# Altium schematic symbol library BitCoin.SchLib: 14 symbols
Pins are listed as number, name and electrical type; pins without a type are passive.

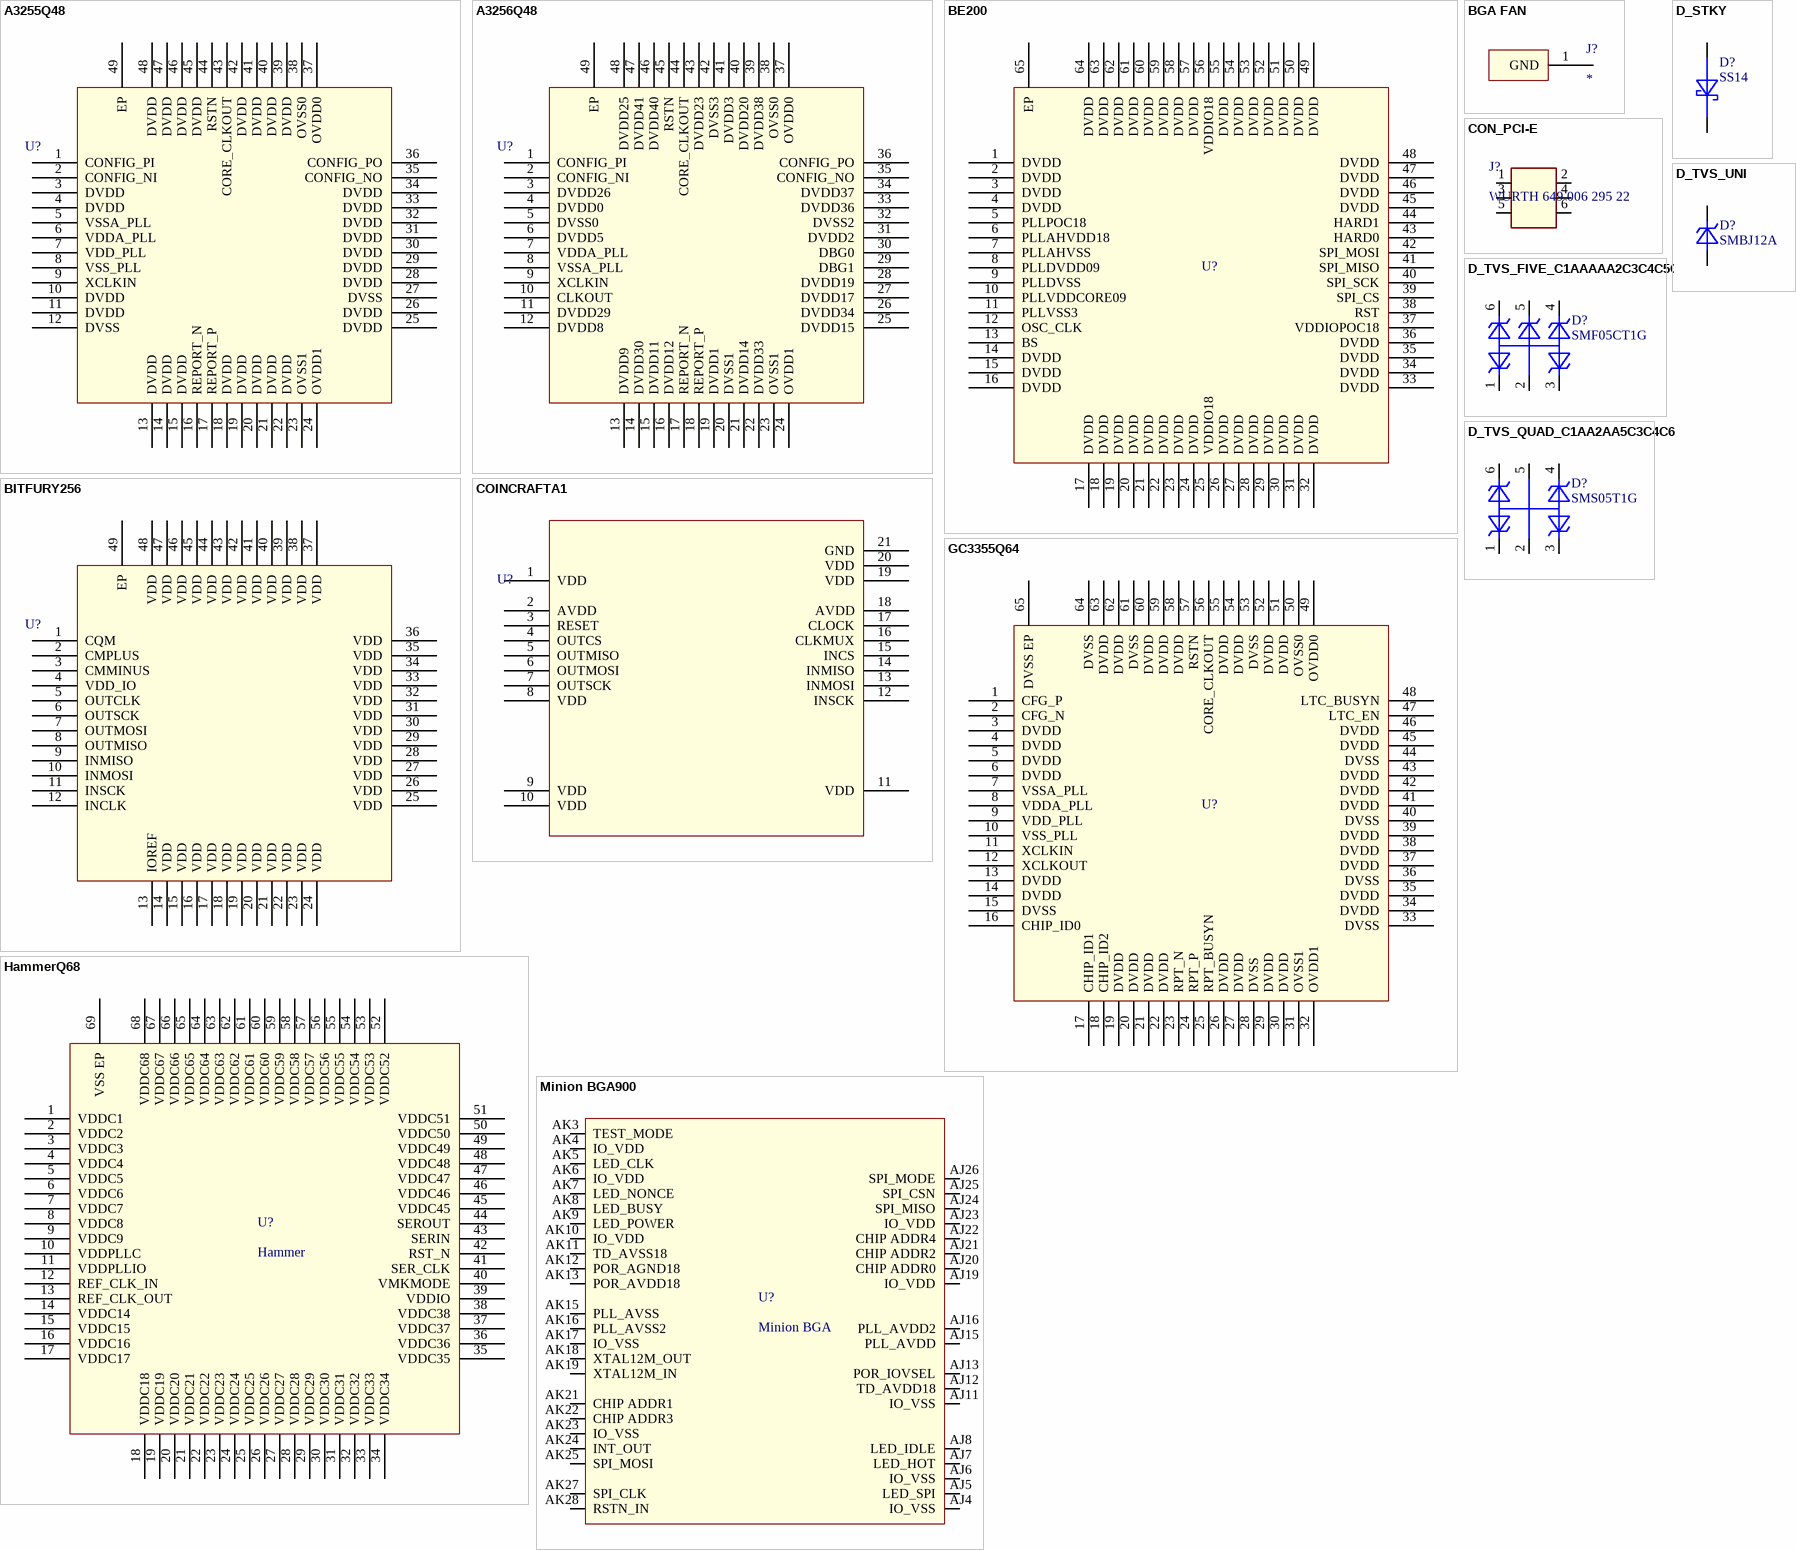
[diagram p0: symbols A3255Q48 to Minion BGA900]

## A3255Q48
designator U?
Avalon2 SHA256
footprint SMD_QFN50P700X700X90-49N
pins: 1 CONFIG_PI, 2 CONFIG_NI, 3 DVDD, 4 DVDD, 5 VSSA_PLL, 6 VDDA_PLL, 7 VDD_PLL, 8 VSS_PLL, 9 XCLKIN, 10 DVDD, 11 DVDD, 12 DVSS, 13 DVDD, 14 DVDD, 15 DVDD, 16 REPORT_N, 17 REPORT_P, 18 DVDD, 19 DVDD, 20 DVDD, 21 DVDD, 22 DVDD, 23 OVSS1, 24 OVDD1, 25 DVDD, 26 DVDD, 27 DVSS, 28 DVDD, 29 DVDD, 30 DVDD, 31 DVDD, 32 DVDD, 33 DVDD, 34 DVDD, 35 CONFIG_NO, 36 CONFIG_PO, 37 OVDD0, 38 OVSS0, 39 DVDD, 40 DVDD, 41 DVDD, 42 DVDD, 43 CORE_CLKOUT, 44 RSTN, 45 DVDD, 46 DVDD, 47 DVDD, 48 DVDD, 49 EP
1 alternate drawing of the same symbol

## A3256Q48
designator U?
Avalon SHA256
footprint QFN50P700X700X80-48M (QFN, 48-Leads, Body 7,1x7,1mm (max), Pitch 0,50mm, IPC Low Density)
pins: 1 CONFIG_PI, 2 CONFIG_NI, 3 DVDD26, 4 DVDD0, 5 DVSS0, 6 DVDD5, 7 VDDA_PLL, 8 VSSA_PLL, 9 XCLKIN, 10 CLKOUT, 11 DVDD29, 12 DVDD8, 13 DVDD9, 14 DVDD30, 15 DVDD11, 16 DVDD12, 17 REPORT_N, 18 REPORT_P, 19 DVDD1, 20 DVSS1, 21 DVDD14, 22 DVDD33, 23 OVSS1, 24 OVDD1, 25 DVDD15, 26 DVDD34, 27 DVDD17, 28 DVDD19, 29 DBG1, 30 DBG0, 31 DVDD2, 32 DVSS2, 33 DVDD36, 34 DVDD37, 35 CONFIG_NO, 36 CONFIG_PO, 37 OVDD0, 38 OVSS0, 39 DVDD38, 40 DVDD20, 41 DVDD3, 42 DVSS3, 43 DVDD23, 44 CORE_CLKOUT, 45 RSTN, 46 DVDD40, 47 DVDD41, 48 DVDD25, 49 EP
1 alternate drawing of the same symbol

## BE200
designator U?
BE200
footprint SMD_QFN50P800X800X80-65N - GRIDSEED
pins: 1 DVDD "UART RXD for BTC or DATA_P for Custom defined 2 Wire Bus for Configuration", 2 DVDD "UART RXD for LTC or DATA_N for Custom defined 2 Wire Bus for Configuration", 3 DVDD "Digital VDD, 1.0V", 4 DVDD "Digital VDD, 1.0V", 5 PLLPOC18 "Digital VDD, 1.0V", 6 PLLAHVDD18 "Digital VDD, 1.0V", 7 PLLAHVSS "PLL Analog VSS", 8 PLLDVDD09 "PLL Analog VDD, 1.0V", 9 PLLDVSS "PLL Digital VDD, 1.0V", 10 PLLVDDCORE09 "PLL Digital VSS", 11 PLLVSS3 "Crystal or Oscillator Clock Input", 12 OSC_CLK "Crystal or Oscillator Clock Output", 13 BS "Digital VDD, 1.0V", 14 DVDD "Digital VDD, 1.0V", 15 DVDD "Digital VSS", 16 DVDD "Chip ID Bit 0, Stable Input", 17 DVDD "Chip ID Bit 1, Stable Input", 18 DVDD "Chip ID Bit 2, Stable Input", 19 DVDD "Digital VDD, 1.0V", 20 DVDD "Digital VDD, 1.0V", 21 DVDD "Digital VDD, 1.0V", 22 DVDD "Digital VDD, 1.0V", 23 DVDD "UART TXD for LTC or DATA_N for Custom defined 2 Wire Bus for Report Open-Drain Mode by default", 24 DVDD "UART TXD for BTC or DATA_P for Custom defined 2 Wire Bus for Report Open-Drain Mode by default", 25 VDDIO18 "BTC Unit is Busy, Active low Open-Drain Mode by default", 26 DVDD "Digital VDD, 1.0V", 27 DVDD "Digital VDD, 1.0V", 28 DVDD "Digital VSS", 29 DVDD "Digital VDD, 1.0V", 30 DVDD "Digital VDD, 1.0V", 31 DVDD "IO VSS0", 32 DVDD "IO VDD1, 3.3V", 33 DVDD "Digital VSS", 34 DVDD "Digital VDD, 1.0V", 35 DVDD "Digital VDD, 1.0V", 36 DVDD "Digital VSS", 37 VDDIOPOC18 "Digital VDD, 1.0V", 38 RST "Digital VDD, 1.0V", 39 SPI_CS "Digital VDD, 1.0V", 40 SPI_SCK "Digital VSS", 41 SPI_MISO "Digital VDD, 1.0V", 42 SPI_MOSI "Digital VDD, 1.0V", 43 HARD0 "Digital VDD, 1.0V", 44 HARD1 "Digital VSS", 45 DVDD "Digital VDD, 1.0V", 46 DVDD "Digital VDD, 1.0V", 47 DVDD "Enable LTC function, Stable Input", 48 DVDD "LTC Unit is Busy, Active low Open-Drain Mode by default", 49 DVDD "IO VDD0, 3.3V", 50 DVDD "IO VSS0", 51 DVDD "Digital VDD, 1.0V", 52 DVDD "Digital VDD, 1.0V", 53 DVDD "Digital VSS", 54 DVDD "Digital VDD, 1.0V", 55 DVDD "Digital VDD, 1.0V", 56 VDDIO18 "Strap Pin; Internal Core Clock Divided by 50.", 57 DVDD "Chip Asynchronous Reset, Active low", 58 DVDD "Digital VDD, 1.0V", 59 DVDD "Digital VDD, 1.0V", 60 DVDD "Digital VDD, 1.0V", 61 DVDD "Digital VSS", 62 DVDD "Digital VDD, 1.0V", 63 DVDD "Digital VDD, 1.0V", 64 DVDD "Digital VSS", 65 EP "Digital VSS"
1 alternate drawing of the same symbol

## BGA FAN
designator J?
footprint SMD_BGA900_FAN
pins: 1 GND

## BITFURY256
designator U?
BitFury SHA256
footprint QFN50P700X700X80-48M (QFN, 48-Leads, Body 7,1x7,1mm (max), Pitch 0,50mm, IPC Low Density)
pins: 1 CQM, 2 CMPLUS, 3 CMMINUS, 4 VDD_IO, 5 OUTCLK, 6 OUTSCK, 7 OUTMOSI, 8 OUTMISO, 9 INMISO, 10 INMOSI, 11 INSCK, 12 INCLK, 13 IOREF, 14 VDD, 15 VDD, 16 VDD, 17 VDD, 18 VDD, 19 VDD, 20 VDD, 21 VDD, 22 VDD, 23 VDD, 24 VDD, 25 VDD, 26 VDD, 27 VDD, 28 VDD, 29 VDD, 30 VDD, 31 VDD, 32 VDD, 33 VDD, 34 VDD, 35 VDD, 36 VDD, 37 VDD, 38 VDD, 39 VDD, 40 VDD, 41 VDD, 42 VDD, 43 VDD, 44 VDD, 45 VDD, 46 VDD, 47 VDD, 48 VDD, 49 EP
1 alternate drawing of the same symbol

## COINCRAFTA1
designator U?
CoinCraft SHA256
footprint SMD_QFNCOINCRAFTX90- 21N (CoinCraft A1)
pins: 1 VDD, 2 AVDD, 3 RESET, 4 OUTCS, 5 OUTMISO, 6 OUTMOSI, 7 OUTSCK, 8 VDD, 9 VDD, 10 VDD, 11 VDD, 12 INSCK, 13 INMOSI, 14 INMISO, 15 INCS, 16 CLKMUX, 17 CLOCK, 18 AVDD, 19 VDD, 20 VDD, 21 GND
1 alternate drawing of the same symbol

## CON_PCI-E
designator J?, comment WURTH 649 006 295 22
4.20mm Male Dual Row Angled Header WR-MPC4
footprint PTH_CON_PCI-E
pins: 1, 2, 3, 4, 5, 6

## D_STKY
designator D?, comment SS14
NOTE: <NOTE>
footprint SMD_DO214AC_SMA
pins: 1 C, 2 A

## D_TVS_FIVE_C1AAAAA2C3C4C5C6
designator D?, comment SMF05CT1G
5 IO lines TVS; NOTE: <NOTE>
footprint SMD_SOT363_SOT65P210X110-6N
pins: 1 C1, 2 AAAA, 3 C2, 4 C3, 5 C4, 6 C4

## D_TVS_QUAD_C1AA2AA5C3C4C6
designator D?, comment SMS05T1G
4 IO lines TVS; NOTE: <NOTE>
footprint SMD_SOT95P280X145-6N
pins: 1 C1, 2 AAAA, 3 C2, 4 C3, 5 C4, 6 C4

## D_TVS_UNI
designator D?, comment SMBJ12A
Åäíîïîñî÷åí òðàíñèë, 600W, UBRmin13.3V@1mA; NOTE: <NOTE>
footprint SMD_DO214AC_SMB
pins: 1 C, 2 A

## GC3355Q64
designator U?
GridSeed
footprint SMD_QFN50P800X800X80-65N - GRIDSEED
pins: 1 CFG_P "UART RXD for BTC or DATA_P for Custom defined 2 Wire Bus for Configuration", 2 CFG_N "UART RXD for LTC or DATA_N for Custom defined 2 Wire Bus for Configuration", 3 DVDD "Digital VDD, 1.0V", 4 DVDD "Digital VDD, 1.0V", 5 DVDD "Digital VDD, 1.0V", 6 DVDD "Digital VDD, 1.0V", 7 VSSA_PLL "PLL Analog VSS", 8 VDDA_PLL "PLL Analog VDD, 1.0V", 9 VDD_PLL "PLL Digital VDD, 1.0V", 10 VSS_PLL "PLL Digital VSS", 11 XCLKIN "Crystal or Oscillator Clock Input", 12 XCLKOUT "Crystal or Oscillator Clock Output", 13 DVDD "Digital VDD, 1.0V", 14 DVDD "Digital VDD, 1.0V", 15 DVSS "Digital VSS", 16 CHIP_ID0 "Chip ID Bit 0, Stable Input", 17 CHIP_ID1 "Chip ID Bit 1, Stable Input", 18 CHIP_ID2 "Chip ID Bit 2, Stable Input", 19 DVDD "Digital VDD, 1.0V", 20 DVDD "Digital VDD, 1.0V", 21 DVDD "Digital VDD, 1.0V", 22 DVDD "Digital VDD, 1.0V", 23 RPT_N "UART TXD for LTC or DATA_N for Custom defined 2 Wire Bus for Report Open-Drain Mode by default", 24 RPT_P "UART TXD for BTC or DATA_P for Custom defined 2 Wire Bus for Report Open-Drain Mode by default", 25 RPT_BUSYN "BTC Unit is Busy, Active low Open-Drain Mode by default", 26 DVDD "Digital VDD, 1.0V", 27 DVDD "Digital VDD, 1.0V", 28 DVSS "Digital VSS", 29 DVDD "Digital VDD, 1.0V", 30 DVDD "Digital VDD, 1.0V", 31 OVSS1 "IO VSS0", 32 OVDD1 "IO VDD1, 3.3V", 33 DVSS "Digital VSS", 34 DVDD "Digital VDD, 1.0V", 35 DVDD "Digital VDD, 1.0V", 36 DVSS "Digital VSS", 37 DVDD "Digital VDD, 1.0V", 38 DVDD "Digital VDD, 1.0V", 39 DVDD "Digital VDD, 1.0V", 40 DVSS "Digital VSS", 41 DVDD "Digital VDD, 1.0V", 42 DVDD "Digital VDD, 1.0V", 43 DVDD "Digital VDD, 1.0V", 44 DVSS "Digital VSS", 45 DVDD "Digital VDD, 1.0V", 46 DVDD "Digital VDD, 1.0V", 47 LTC_EN "Enable LTC function, Stable Input", 48 LTC_BUSYN "LTC Unit is Busy, Active low Open-Drain Mode by default", 49 OVDD0 "IO VDD0, 3.3V", 50 OVSS0 "IO VSS0", 51 DVDD "Digital VDD, 1.0V", 52 DVDD "Digital VDD, 1.0V", 53 DVSS "Digital VSS", 54 DVDD "Digital VDD, 1.0V", 55 DVDD "Digital VDD, 1.0V", 56 CORE_CLKOUT "Strap Pin; Internal Core Clock Divided by 50.", 57 RSTN "Chip Asynchronous Reset, Active low", 58 DVDD "Digital VDD, 1.0V", 59 DVDD "Digital VDD, 1.0V", 60 DVDD "Digital VDD, 1.0V", 61 DVSS "Digital VSS", 62 DVDD "Digital VDD, 1.0V", 63 DVDD "Digital VDD, 1.0V", 64 DVSS "Digital VSS", 65 DVSS EP "Digital VSS"
1 alternate drawing of the same symbol

## HammerQ68
designator U?, comment Hammer
Hammer ASIC
footprint SMD_QFN50P800X800X80-69N - HAMMER
pins: 1 VDDC1 "VDD Core 0.63V", 2 VDDC2 "VDD Core 0.63V", 3 VDDC3 "VDD Core 0.63V", 4 VDDC4 "VDD Core 0.63V", 5 VDDC5 "VDD Core 0.63V", 6 VDDC6 "VDD Core 0.63V", 7 VDDC7 "VDD Core 0.63V", 8 VDDC8 "VDD Core 0.63V", 9 VDDC9 "VDD Core 0.63V", 10 VDDPLLC "PLL VDD Core 0.9V", 11 VDDPLLIO "PLL VDD I/O 1.8V", 12 REF_CLK_IN "Reference clock Oscillator Can be used as Reference clock input", 13 REF_CLK_OUT "Reference clock Oscillator, left open if not used", 14 VDDC14 "VDD Core 0.63V", 15 VDDC15 "VDD Core 0.63V", 16 VDDC16 "VDD Core 0.63V", 17 VDDC17 "VDD Core 0.63V", 18 VDDC18 "VDD Core 0.63V", 19 VDDC19 "VDD Core 0.63V", 20 VDDC20 "VDD Core 0.63V", 21 VDDC21 "VDD Core 0.63V", 22 VDDC22 "VDD Core 0.63V", 23 VDDC23 "VDD Core 0.63V", 24 VDDC24 "VDD Core 0.63V", 25 VDDC25 "VDD Core 0.63V", 26 VDDC26 "VDD Core 0.63V", 27 VDDC27 "VDD Core 0.63V", 28 VDDC28 "VDD Core 0.63V", 29 VDDC29 "VDD Core 0.63V", 30 VDDC30 "VDD Core 0.63V", 31 VDDC31 "VDD Core 0.63V", 32 VDDC32 "VDD Core 0.63V", 33 VDDC33 "VDD Core 0.63V", 34 VDDC34 "VDD Core 0.63V", 35 VDDC35 "VDD Core 0.63V", 36 VDDC36 "VDD Core 0.63V", 37 VDDC37 "VDD Core 0.63V", 38 VDDC38 "VDD Core 0.63V", 39 VDDIO "Thermal Sensor and I/O VDD 1.8V", 40 VMKMODE "leave unconnected", 41 SER_CLK "Serial Clock Input, Schmitt trigger", 42 RST_N "Reset input, active low, internal pull down and Schmitt trigger", 43 SERIN "Serial Data Input, internal pull down and Schmitt trigger", 44 SEROUT "Serial Data Output, 12 mA diving strength", 45 VDDC45 "VDD Core 0.63V", 46 VDDC46 "VDD Core 0.63V", 47 VDDC47 "VDD Core 0.63V", 48 VDDC48 "VDD Core 0.63V", 49 VDDC49 "VDD Core 0.63V", 50 VDDC50 "VDD Core 0.63V", 51 VDDC51 "VDD Core 0.63V", 52 VDDC52 "VDD Core 0.63V", 53 VDDC53 "VDD Core 0.63V", 54 VDDC54 "VDD Core 0.63V", 55 VDDC55 "VDD Core 0.63V", 56 VDDC56 "VDD Core 0.63V", 57 VDDC57 "VDD Core 0.63V", 58 VDDC58 "VDD Core 0.63V", 59 VDDC59 "VDD Core 0.63V", 60 VDDC60 "VDD Core 0.63V", 61 VDDC61 "VDD Core 0.63V", 62 VDDC62 "VDD Core 0.63V", 63 VDDC63 "VDD Core 0.63V", 64 VDDC64 "VDD Core 0.63V", 65 VDDC65 "VDD Core 0.63V", 66 VDDC66 "VDD Core 0.63V", 67 VDDC67 "VDD Core 0.63V", 68 VDDC68 "VDD Core 0.63V", 69 VSS EP "VDD Core 0.63V"

## Minion BGA900
designator U?, comment Minion BGA
footprint SMD_BGA900C80P30X30_2500X2500X240
pins: A1 CORE_VSS (power) hidden to GND, A2 CORE_VDD (power) hidden to 0.8V, A3 CORE_VSS (power) hidden to GND, A4 CORE_VDD (power) hidden to 0.8V, A5 CORE_VSS (power) hidden to GND, A6 CORE_VDD (power) hidden to 0.8V, A7 CORE_VSS (power) hidden to GND, A8 CORE_VDD (power) hidden to 0.8V, A9 CORE_VSS (power) hidden to GND, A10 CORE_VDD (power) hidden to 0.8V, A11 CORE_VSS (power) hidden to GND, A12 CORE_VDD (power) hidden to 0.8V, A13 CORE_VSS (power) hidden to GND, A14 CORE_VDD (power) hidden to 0.8V, A15 CORE_VSS (power) hidden to GND, A16 CORE_VDD (power) hidden to 0.8V, A17 CORE_VSS (power) hidden to GND, A18 CORE_VDD (power) hidden to 0.8V, A19 CORE_VSS (power) hidden to GND, A20 CORE_VDD (power) hidden to 0.8V, A21 CORE_VSS (power) hidden to GND, A22 CORE_VDD (power) hidden to 0.8V, A23 CORE_VSS (power) hidden to GND, A24 CORE_VDD (power) hidden to 0.8V, A25 CORE_VSS (power) hidden to GND, A26 CORE_VDD (power) hidden to 0.8V, A27 CORE_VSS (power) hidden to GND, A28 CORE_VDD (power) hidden to 0.8V, A29 CORE_VSS (power) hidden to GND, A30 CORE_VDD (power) hidden to 0.8V, AA1 CORE_VSS (power) hidden to GND, AA2 CORE_VDD (power) hidden to 0.8V, AA3 CORE_VSS (power) hidden to GND, AA4 CORE_VDD (power) hidden to 0.8V, AA5 CORE_VSS (power) hidden to GND, AA6 CORE_VDD (power) hidden to 0.8V, AA7 CORE_VSS (power) hidden to GND, AA8 CORE_VDD (power) hidden to 0.8V, AA9 CORE_VSS (power) hidden to GND, AA10 CORE_VDD (power) hidden to 0.8V, AA11 CORE_VSS (power) hidden to GND, AA12 CORE_VDD (power) hidden to 0.8V, AA13 CORE_VSS (power) hidden to GND, AA14 CORE_VDD (power) hidden to 0.8V, AA15 CORE_VSS (power) hidden to GND, AA16 CORE_VDD (power) hidden to 0.8V, AA17 CORE_VSS (power) hidden to GND, AA18 CORE_VDD (power) hidden to 0.8V, AA19 CORE_VSS (power) hidden to GND, AA20 CORE_VDD (power) hidden to 0.8V, AA21 CORE_VSS (power) hidden to GND, AA22 CORE_VDD (power) hidden to 0.8V, AA23 CORE_VSS (power) hidden to GND, AA24 CORE_VDD (power) hidden to 0.8V, AA25 CORE_VSS (power) hidden to GND, AA26 CORE_VDD (power) hidden to 0.8V, AA27 CORE_VSS (power) hidden to GND, AA28 CORE_VDD (power) hidden to 0.8V, AA29 CORE_VSS (power) hidden to GND, AA30 CORE_VDD (power) hidden to 0.8V, AB1 CORE_VDD (power) hidden to 0.8V, AB2 CORE_VSS (power) hidden to GND, AB3 CORE_VDD (power) hidden to 0.8V, AB4 CORE_VSS (power) hidden to GND, AB5 CORE_VDD (power) hidden to 0.8V, AB6 CORE_VSS (power) hidden to GND, AB7 CORE_VDD (power) hidden to 0.8V, AB8 CORE_VSS (power) hidden to GND, AB9 CORE_VDD (power) hidden to 0.8V, AB10 CORE_VSS (power) hidden to GND, AB11 CORE_VDD (power) hidden to 0.8V, AB12 CORE_VSS (power) hidden to GND, AB13 CORE_VDD (power) hidden to 0.8V, AB14 CORE_VSS (power) hidden to GND, AB15 CORE_VDD (power) hidden to 0.8V, AB16 CORE_VSS (power) hidden to GND, AB17 CORE_VDD (power) hidden to 0.8V, AB18 CORE_VSS (power) hidden to GND, AB19 CORE_VDD (power) hidden to 0.8V, AB20 CORE_VSS (power) hidden to GND, AB21 CORE_VDD (power) hidden to 0.8V, AB22 CORE_VSS (power) hidden to GND, AB23 CORE_VDD (power) hidden to 0.8V, AB24 CORE_VSS (power) hidden to GND, AB25 CORE_VDD (power) hidden to 0.8V, AB26 CORE_VSS (power) hidden to GND, AB27 CORE_VDD (power) hidden to 0.8V, AB28 CORE_VSS (power) hidden to GND, AB29 CORE_VDD (power) hidden to 0.8V, AB30 CORE_VSS (power) hidden to GND, AC1 CORE_VSS (power) hidden to GND, AC2 CORE_VDD (power) hidden to 0.8V, AC3 CORE_VSS (power) hidden to GND, AC4 CORE_VDD (power) hidden to 0.8V, AC5 CORE_VSS (power) hidden to GND, AC6 CORE_VDD (power) hidden to 0.8V, AC7 CORE_VSS (power) hidden to GND, AC8 CORE_VDD (power) hidden to 0.8V, AC9 CORE_VSS (power) hidden to GND, AC10 CORE_VDD (power) hidden to 0.8V, AC11 CORE_VSS (power) hidden to GND, AC12 CORE_VDD (power) hidden to 0.8V, AC13 CORE_VSS (power) hidden to GND, AC14 CORE_VDD (power) hidden to 0.8V, AC15 CORE_VSS (power) hidden to GND, AC16 CORE_VDD (power) hidden to 0.8V, AC17 CORE_VSS (power) hidden to GND, AC18 CORE_VDD (power) hidden to 0.8V, AC19 CORE_VSS (power) hidden to GND, AC20 CORE_VDD (power) hidden to 0.8V, AC21 CORE_VSS (power) hidden to GND, AC22 CORE_VDD (power) hidden to 0.8V, AC23 CORE_VSS (power) hidden to GND, AC24 CORE_VDD (power) hidden to 0.8V, AC25 CORE_VSS (power) hidden to GND, AC26 CORE_VDD (power) hidden to 0.8V, AC27 CORE_VSS (power) hidden to GND, AC28 CORE_VDD (power) hidden to 0.8V, AC29 CORE_VSS (power) hidden to GND, AC30 CORE_VDD (power) hidden to 0.8V, AD1 CORE_VDD (power) hidden to 0.8V, AD2 CORE_VSS (power) hidden to GND, AD3 CORE_VDD (power) hidden to 0.8V, AD4 CORE_VSS (power) hidden to GND, AD5 CORE_VDD (power) hidden to 0.8V, AD6 CORE_VSS (power) hidden to GND, AD7 CORE_VDD (power) hidden to 0.8V, AD8 CORE_VSS (power) hidden to GND, AD9 CORE_VDD (power) hidden to 0.8V, AD10 CORE_VSS (power) hidden to GND, AD11 CORE_VDD (power) hidden to 0.8V, AD12 CORE_VSS (power) hidden to GND, AD13 CORE_VDD (power) hidden to 0.8V, AD14 CORE_VSS (power) hidden to GND, AD15 CORE_VDD (power) hidden to 0.8V, AD16 CORE_VSS (power) hidden to GND, AD17 CORE_VDD (power) hidden to 0.8V, AD18 CORE_VSS (power) hidden to GND, AD19 CORE_VDD (power) hidden to 0.8V, AD20 CORE_VSS (power) hidden to GND, AD21 CORE_VDD (power) hidden to 0.8V, AD22 CORE_VSS (power) hidden to GND, AD23 CORE_VDD (power) hidden to 0.8V, AD24 CORE_VSS (power) hidden to GND, AD25 CORE_VDD (power) hidden to 0.8V, AD26 CORE_VSS (power) hidden to GND, AD27 CORE_VDD (power) hidden to 0.8V, AD28 CORE_VSS (power) hidden to GND, AD29 CORE_VDD (power) hidden to 0.8V, AD30 CORE_VSS (power) hidden to GND, AE1 CORE_VSS (power) hidden to GND, AE2 CORE_VDD (power) hidden to 0.8V, AE3 CORE_VSS (power) hidden to GND, AE4 CORE_VDD (power) hidden to 0.8V, AE5 CORE_VSS (power) hidden to GND, AE6 CORE_VDD (power) hidden to 0.8V, AE7 CORE_VSS (power) hidden to GND, AE8 CORE_VDD (power) hidden to 0.8V, AE9 CORE_VSS (power) hidden to GND, AE10 CORE_VDD (power) hidden to 0.8V, AE11 CORE_VSS (power) hidden to GND, AE12 CORE_VDD (power) hidden to 0.8V, AE13 CORE_VSS (power) hidden to GND, AE14 CORE_VDD (power) hidden to 0.8V, AE15 CORE_VSS (power) hidden to GND, AE16 CORE_VDD (power) hidden to 0.8V, AE17 CORE_VSS (power) hidden to GND, AE18 CORE_VDD (power) hidden to 0.8V, AE19 CORE_VSS (power) hidden to GND, AE20 CORE_VDD (power) hidden to 0.8V, AE21 CORE_VSS (power) hidden to GND, AE22 CORE_VDD (power) hidden to 0.8V, AE23 CORE_VSS (power) hidden to GND, AE24 CORE_VDD (power) hidden to 0.8V, AE25 CORE_VSS (power) hidden to GND, AE26 CORE_VDD (power) hidden to 0.8V, AE27 CORE_VSS (power) hidden to GND, AE28 CORE_VDD (power) hidden to 0.8V, AE29 CORE_VSS (power) hidden to GND, AE30 CORE_VDD (power) hidden to 0.8V, AF1 CORE_VDD (power) hidden to 0.8V, AF2 CORE_VSS (power) hidden to GND, AF3 CORE_VDD (power) hidden to 0.8V, AF4 CORE_VSS (power) hidden to GND, AF5 CORE_VDD (power) hidden to 0.8V, AF6 CORE_VSS (power) hidden to GND, AF7 CORE_VDD (power) hidden to 0.8V, AF8 CORE_VSS (power) hidden to GND, AF9 CORE_VDD (power) hidden to 0.8V, AF10 CORE_VSS (power) hidden to GND, AF11 CORE_VDD (power) hidden to 0.8V, AF12 CORE_VSS (power) hidden to GND, AF13 CORE_VDD (power) hidden to 0.8V, AF14 CORE_VSS (power) hidden to GND, AF15 CORE_VDD (power) hidden to 0.8V, AF16 CORE_VSS (power) hidden to GND, AF17 CORE_VDD (power) hidden to 0.8V, AF18 CORE_VSS (power) hidden to GND, AF19 CORE_VDD (power) hidden to 0.8V, AF20 CORE_VSS (power) hidden to GND, AF21 CORE_VDD (power) hidden to 0.8V, AF22 CORE_VSS (power) hidden to GND, AF23 CORE_VDD (power) hidden to 0.8V, AF24 CORE_VSS (power) hidden to GND, AF25 CORE_VDD (power) hidden to 0.8V, AF26 CORE_VSS (power) hidden to GND, AF27 CORE_VDD (power) hidden to 0.8V, AF28 CORE_VSS (power) hidden to GND, AF29 CORE_VDD (power) hidden to 0.8V, AF30 CORE_VSS (power) hidden to GND, AG1 CORE_VSS (power) hidden to GND, AG2 CORE_VDD (power) hidden to 0.8V, AG3 CORE_VSS (power) hidden to GND, AG4 CORE_VDD (power) hidden to 0.8V, AG5 CORE_VSS (power) hidden to GND, AG6 CORE_VDD (power) hidden to 0.8V, AG7 CORE_VSS (power) hidden to GND, AG8 CORE_VDD (power) hidden to 0.8V, AG9 CORE_VSS (power) hidden to GND, AG10 CORE_VDD (power) hidden to 0.8V, AG11 CORE_VSS (power) hidden to GND, AG12 CORE_VDD (power) hidden to 0.8V, AG13 CORE_VSS (power) hidden to GND, AG14 CORE_VDD (power) hidden to 0.8V, AG15 CORE_VSS (power) hidden to GND, AG16 CORE_VDD (power) hidden to 0.8V, AG17 CORE_VSS (power) hidden to GND, AG18 CORE_VDD (power) hidden to 0.8V, AG19 CORE_VSS (power) hidden to GND, AG20 CORE_VDD (power) hidden to 0.8V, AG21 CORE_VSS (power) hidden to GND, AG22 CORE_VDD (power) hidden to 0.8V, AG23 CORE_VSS (power) hidden to GND, AG24 CORE_VDD (power) hidden to 0.8V, AG25 CORE_VSS (power) hidden to GND, AG26 CORE_VDD (power) hidden to 0.8V, AG27 CORE_VSS (power) hidden to GND, AG28 CORE_VDD (power) hidden to 0.8V, AG29 CORE_VSS (power) hidden to GND, AG30 CORE_VDD (power) hidden to 0.8V, AH1 CORE_VDD (power) hidden to 0.8V, AH2 CORE_VSS (power) hidden to GND, AH3 CORE_VDD (power) hidden to 0.8V, AH4 CORE_VSS (power) hidden to GND, AH5 CORE_VDD (power) hidden to 0.8V, AH6 CORE_VSS (power) hidden to GND, AH7 CORE_VDD (power) hidden to 0.8V, AH8 CORE_VSS (power) hidden to GND, AH9 CORE_VDD (power) hidden to 0.8V, AH10 CORE_VSS (power) hidden to GND, AH11 CORE_VDD (power) hidden to 0.8V, AH12 CORE_VSS (power) hidden to GND, AH13 CORE_VDD (power) hidden to 0.8V, AH14 CORE_VSS (power) hidden to GND, AH15 CORE_VDD (power) hidden to 0.8V, AH16 CORE_VSS (power) hidden to GND, AH17 CORE_VDD (power) hidden to 0.8V, AH18 CORE_VSS (power) hidden to GND, AH19 CORE_VDD (power) hidden to 0.8V, AH20 CORE_VSS (power) hidden to GND, AH21 CORE_VDD (power) hidden to 0.8V, AH22 CORE_VSS (power) hidden to GND, AH23 CORE_VDD (power) hidden to 0.8V, AH24 CORE_VSS (power) hidden to GND, AH25 CORE_VDD (power) hidden to 0.8V, AH26 CORE_VSS (power) hidden to GND, AH27 CORE_VDD (power) hidden to 0.8V, AH28 CORE_VSS (power) hidden to GND, AH29 CORE_VDD (power) hidden to 0.8V, AH30 CORE_VSS (power) hidden to GND, AJ1 CORE_VSS (power) hidden to GND, AJ2 CORE_VDD (power) hidden to 0.8V, AJ3 CORE_VSS (power) hidden to GND, AJ4 IO_VSS, AJ5 LED_SPI "LED indicator, which is controlled", AJ6 IO_VSS, AJ7 LED_HOT "Chip hot indicator 1: high threshold triggered 0: low threshold triggered", AJ8 LED_IDLE ""Core idle chip busy indicator:1: Busy", AJ9 CORE_VSS (power) hidden to GND, AJ10 CORE_VDD (power) hidden to 0.8V, AJ11 IO_VSS, AJ12 TD_AVDD18 "Temperature detector power", AJ13 POR_IOVSEL, AJ14 CORE_VDD (power) hidden to 0.8V, AJ15 PLL_AVDD "PLL power", AJ16 PLL_AVDD2 "PLL power", AJ17 CORE_VSS (power) hidden to GND, AJ18 CORE_VDD (power) hidden to 0.8V, AJ19 IO_VDD, AJ20 CHIP ADDR0 "ID of ASIC", AJ21 CHIP ADDR2 "ID of ASIC", AJ22 CHIP ADDR4 "ID of ASIC", AJ23 IO_VDD, AJ24 SPI_MISO "SPI slave output data", AJ25 SPI_CSN "SPI select signal 1: disable 0: select enable", AJ26 SPI_MODE "SPI mode select 1: mode 3 0: mode 1", AJ27 CORE_VSS (power) hidden to GND, AJ28 CORE_VDD (power) hidden to 0.8V, AJ29 CORE_VSS (power) hidden to GND, AJ30 CORE_VDD (power) hidden to 0.8V, AK1 CORE_VDD (power) hidden to 0.8V, AK2 CORE_VSS (power) hidden to GND, AK3 TEST_MODE "Test mode 1: test mode 0: function mode", AK4 IO_VDD, AK5 LED_CLK, AK6 IO_VDD, AK7 LED_NONCE "nonce get indicator: 1: Get nonce, stay time configurable 0:no nonce get currently", AK8 LED_BUSY "Chip busy indicator", AK9 LED_POWER "Led power indicator", AK10 IO_VDD, AK11 TD_AVSS18 "Temperature detector gnd", AK12 POR_AGND18, AK13 POR_AVDD18, AK14 CORE_VSS (power) hidden to GND, AK15 PLL_AVSS "PLL GND", AK16 PLL_AVSS2 "PLL GND", AK17 IO_VSS, AK18 XTAL12M_OUT, AK19 XTAL12M_IN, AK20 CORE_VSS (power) hidden to GND, AK21 CHIP ADDR1 "ID of ASIC", AK22 CHIP ADDR3 "ID of ASIC", AK23 IO_VSS, AK24 INT_OUT "Interrupt output", AK25 SPI_MOSI "SPI slave input data", AK26 CORE_VDD (power) hidden to 0.8V, AK27 SPI_CLK "SPI slave clock in", AK28 RSTN_IN "Reset signal", AK29 CORE_VDD (power) hidden to 0.8V, AK30 CORE_VSS (power) hidden to GND, B1 CORE_VDD (power) hidden to 0.8V, B2 CORE_VSS (power) hidden to GND, B3 CORE_VDD (power) hidden to 0.8V, B4 CORE_VSS (power) hidden to GND, B5 CORE_VDD (power) hidden to 0.8V, B6 CORE_VSS (power) hidden to GND, B7 CORE_VDD (power) hidden to 0.8V, B8 CORE_VSS (power) hidden to GND, B9 CORE_VDD (power) hidden to 0.8V, B10 CORE_VSS (power) hidden to GND, B11 CORE_VDD (power) hidden to 0.8V, B12 CORE_VSS (power) hidden to GND, B13 CORE_VDD (power) hidden to 0.8V, B14 CORE_VSS (power) hidden to GND, B15 CORE_VDD (power) hidden to 0.8V, B16 CORE_VSS (power) hidden to GND, B17 CORE_VDD (power) hidden to 0.8V, B18 CORE_VSS (power) hidden to GND, B19 CORE_VDD (power) hidden to 0.8V, B20 CORE_VSS (power) hidden to GND, B21 CORE_VDD (power) hidden to 0.8V, B22 CORE_VSS (power) hidden to GND, B23 CORE_VDD (power) hidden to 0.8V, B24 CORE_VSS (power) hidden to GND, B25 CORE_VDD (power) hidden to 0.8V, B26 CORE_VSS (power) hidden to GND, B27 CORE_VDD (power) hidden to 0.8V, B28 CORE_VSS (power) hidden to GND, B29 CORE_VDD (power) hidden to 0.8V, B30 CORE_VSS (power) hidden to GND, C1 CORE_VSS (power) hidden to GND, C2 CORE_VDD (power) hidden to 0.8V, C3 CORE_VSS (power) hidden to GND, C4 CORE_VDD (power) hidden to 0.8V, C5 CORE_VSS (power) hidden to GND, C6 CORE_VDD (power) hidden to 0.8V, C7 CORE_VSS (power) hidden to GND, C8 CORE_VDD (power) hidden to 0.8V, C9 CORE_VSS (power) hidden to GND, C10 CORE_VDD (power) hidden to 0.8V, C11 CORE_VSS (power) hidden to GND, C12 CORE_VDD (power) hidden to 0.8V, C13 CORE_VSS (power) hidden to GND, C14 CORE_VDD (power) hidden to 0.8V, C15 CORE_VSS (power) hidden to GND, C16 CORE_VDD (power) hidden to 0.8V, C17 CORE_VSS (power) hidden to GND, C18 CORE_VDD (power) hidden to 0.8V, C19 CORE_VSS (power) hidden to GND, C20 CORE_VDD (power) hidden to 0.8V, C21 CORE_VSS (power) hidden to GND, C22 CORE_VDD (power) hidden to 0.8V, C23 CORE_VSS (power) hidden to GND, C24 CORE_VDD (power) hidden to 0.8V, C25 CORE_VSS (power) hidden to GND, C26 CORE_VDD (power) hidden to 0.8V, C27 CORE_VSS (power) hidden to GND, C28 CORE_VDD (power) hidden to 0.8V, C29 CORE_VSS (power) hidden to GND, C30 CORE_VDD (power) hidden to 0.8V, D1 CORE_VDD (power) hidden to 0.8V, D2 CORE_VSS (power) hidden to GND, D3 CORE_VDD (power) hidden to 0.8V, D4 CORE_VSS (power) hidden to GND, D5 CORE_VDD (power) hidden to 0.8V, D6 CORE_VSS (power) hidden to GND, D7 CORE_VDD (power) hidden to 0.8V, D8 CORE_VSS (power) hidden to GND, D9 CORE_VDD (power) hidden to 0.8V, D10 CORE_VSS (power) hidden to GND, D11 CORE_VDD (power) hidden to 0.8V, D12 CORE_VSS (power) hidden to GND, D13 CORE_VDD (power) hidden to 0.8V, D14 CORE_VSS (power) hidden to GND, D15 CORE_VDD (power) hidden to 0.8V, D16 CORE_VSS (power) hidden to GND, D17 CORE_VDD (power) hidden to 0.8V, D18 CORE_VSS (power) hidden to GND, D19 CORE_VDD (power) hidden to 0.8V, D20 CORE_VSS (power) hidden to GND, D21 CORE_VDD (power) hidden to 0.8V, D22 CORE_VSS (power) hidden to GND, D23 CORE_VDD (power) hidden to 0.8V, D24 CORE_VSS (power) hidden to GND, D25 CORE_VDD (power) hidden to 0.8V, D26 CORE_VSS (power) hidden to GND, D27 CORE_VDD (power) hidden to 0.8V, D28 CORE_VSS (power) hidden to GND, D29 CORE_VDD (power) hidden to 0.8V, D30 CORE_VSS (power) hidden to GND, E1 CORE_VSS (power) hidden to GND, E2 CORE_VDD (power) hidden to 0.8V, E3 CORE_VSS (power) hidden to GND, E4 CORE_VDD (power) hidden to 0.8V, E5 CORE_VSS (power) hidden to GND, E6 CORE_VDD (power) hidden to 0.8V, E7 CORE_VSS (power) hidden to GND, E8 CORE_VDD (power) hidden to 0.8V, E9 CORE_VSS (power) hidden to GND, E10 CORE_VDD (power) hidden to 0.8V, E11 CORE_VSS (power) hidden to GND, E12 CORE_VDD (power) hidden to 0.8V, E13 CORE_VSS (power) hidden to GND, E14 CORE_VDD (power) hidden to 0.8V, E15 CORE_VSS (power) hidden to GND, E16 CORE_VDD (power) hidden to 0.8V, E17 CORE_VSS (power) hidden to GND, E18 CORE_VDD (power) hidden to 0.8V, E19 CORE_VSS (power) hidden to GND, E20 CORE_VDD (power) hidden to 0.8V, E21 CORE_VSS (power) hidden to GND, E22 CORE_VDD (power) hidden to 0.8V, E23 CORE_VSS (power) hidden to GND, E24 CORE_VDD (power) hidden to 0.8V, E25 CORE_VSS (power) hidden to GND, E26 CORE_VDD (power) hidden to 0.8V, E27 CORE_VSS (power) hidden to GND, E28 CORE_VDD (power) hidden to 0.8V, E29 CORE_VSS (power) hidden to GND, E30 CORE_VDD (power) hidden to 0.8V, F1 CORE_VDD (power) hidden to 0.8V, F2 CORE_VSS (power) hidden to GND, F3 CORE_VDD (power) hidden to 0.8V, F4 CORE_VSS (power) hidden to GND, F5 CORE_VDD (power) hidden to 0.8V, F6 CORE_VSS (power) hidden to GND, F7 CORE_VDD (power) hidden to 0.8V, F8 CORE_VSS (power) hidden to GND, F9 CORE_VDD (power) hidden to 0.8V, F10 CORE_VSS (power) hidden to GND, F11 CORE_VDD (power) hidden to 0.8V, F12 CORE_VSS (power) hidden to GND, F13 CORE_VDD (power) hidden to 0.8V, F14 CORE_VSS (power) hidden to GND, F15 CORE_VDD (power) hidden to 0.8V, F16 CORE_VSS (power) hidden to GND, F17 CORE_VDD (power) hidden to 0.8V, F18 CORE_VSS (power) hidden to GND, F19 CORE_VDD (power) hidden to 0.8V, F20 CORE_VSS (power) hidden to GND, F21 CORE_VDD (power) hidden to 0.8V, F22 CORE_VSS (power) hidden to GND, F23 CORE_VDD (power) hidden to 0.8V, F24 CORE_VSS (power) hidden to GND, F25 CORE_VDD (power) hidden to 0.8V, F26 CORE_VSS (power) hidden to GND, F27 CORE_VDD (power) hidden to 0.8V, F28 CORE_VSS (power) hidden to GND, F29 CORE_VDD (power) hidden to 0.8V, F30 CORE_VSS (power) hidden to GND, G1 CORE_VSS (power) hidden to GND, G2 CORE_VDD (power) hidden to 0.8V, G3 CORE_VSS (power) hidden to GND, G4 CORE_VDD (power) hidden to 0.8V, G5 CORE_VSS (power) hidden to GND, G6 CORE_VDD (power) hidden to 0.8V, G7 CORE_VSS (power) hidden to GND, G8 CORE_VDD (power) hidden to 0.8V, G9 CORE_VSS (power) hidden to GND, G10 CORE_VDD (power) hidden to 0.8V, G11 CORE_VSS (power) hidden to GND, G12 CORE_VDD (power) hidden to 0.8V, G13 CORE_VSS (power) hidden to GND, G14 CORE_VDD (power) hidden to 0.8V, G15 CORE_VSS (power) hidden to GND, G16 CORE_VDD (power) hidden to 0.8V, G17 CORE_VSS (power) hidden to GND, G18 CORE_VDD (power) hidden to 0.8V, G19 CORE_VSS (power) hidden to GND, G20 CORE_VDD (power) hidden to 0.8V, G21 CORE_VSS (power) hidden to GND, G22 CORE_VDD (power) hidden to 0.8V, G23 CORE_VSS (power) hidden to GND, G24 CORE_VDD (power) hidden to 0.8V, G25 CORE_VSS (power) hidden to GND, G26 CORE_VDD (power) hidden to 0.8V, G27 CORE_VSS (power) hidden to GND, G28 CORE_VDD (power) hidden to 0.8V, G29 CORE_VSS (power) hidden to GND, G30 CORE_VDD (power) hidden to 0.8V, H1 CORE_VDD (power) hidden to 0.8V, H2 CORE_VSS (power) hidden to GND, H3 CORE_VDD (power) hidden to 0.8V, H4 CORE_VSS (power) hidden to GND, H5 CORE_VDD (power) hidden to 0.8V, H6 CORE_VSS (power) hidden to GND, H7 CORE_VDD (power) hidden to 0.8V, H8 CORE_VSS (power) hidden to GND, H9 CORE_VDD (power) hidden to 0.8V, H10 CORE_VSS (power) hidden to GND, H11 CORE_VDD (power) hidden to 0.8V, H12 CORE_VSS (power) hidden to GND, H13 CORE_VDD (power) hidden to 0.8V, H14 CORE_VSS (power) hidden to GND, H15 CORE_VDD (power) hidden to 0.8V, H16 CORE_VSS (power) hidden to GND, H17 CORE_VDD (power) hidden to 0.8V, H18 CORE_VSS (power) hidden to GND, H19 CORE_VDD (power) hidden to 0.8V, H20 CORE_VSS (power) hidden to GND, H21 CORE_VDD (power) hidden to 0.8V, H22 CORE_VSS (power) hidden to GND, H23 CORE_VDD (power) hidden to 0.8V, H24 CORE_VSS (power) hidden to GND, H25 CORE_VDD (power) hidden to 0.8V, H26 CORE_VSS (power) hidden to GND, H27 CORE_VDD (power) hidden to 0.8V, H28 CORE_VSS (power) hidden to GND, H29 CORE_VDD (power) hidden to 0.8V, H30 CORE_VSS (power) hidden to GND, J1 CORE_VSS (power) hidden to GND, J2 CORE_VDD (power) hidden to 0.8V, J3 CORE_VSS (power) hidden to GND, J4 CORE_VDD (power) hidden to 0.8V, J5 CORE_VSS (power) hidden to GND, J6 CORE_VDD (power) hidden to 0.8V, J7 CORE_VSS (power) hidden to GND, J8 CORE_VDD (power) hidden to 0.8V, J9 CORE_VSS (power) hidden to GND, J10 CORE_VDD (power) hidden to 0.8V, J11 CORE_VSS (power) hidden to GND, J12 CORE_VDD (power) hidden to 0.8V, J13 CORE_VSS (power) hidden to GND, J14 CORE_VDD (power) hidden to 0.8V, J15 CORE_VSS (power) hidden to GND, J16 CORE_VDD (power) hidden to 0.8V, J17 CORE_VSS (power) hidden to GND, J18 CORE_VDD (power) hidden to 0.8V, J19 CORE_VSS (power) hidden to GND, J20 CORE_VDD (power) hidden to 0.8V, J21 CORE_VSS (power) hidden to GND, J22 CORE_VDD (power) hidden to 0.8V, J23 CORE_VSS (power) hidden to GND, J24 CORE_VDD (power) hidden to 0.8V, J25 CORE_VSS (power) hidden to GND, J26 CORE_VDD (power) hidden to 0.8V, J27 CORE_VSS (power) hidden to GND, J28 CORE_VDD (power) hidden to 0.8V, J29 CORE_VSS (power) hidden to GND, J30 CORE_VDD (power) hidden to 0.8V, K1 CORE_VDD (power) hidden to 0.8V, K2 CORE_VSS (power) hidden to GND, K3 CORE_VDD (power) hidden to 0.8V, K4 CORE_VSS (power) hidden to GND, K5 CORE_VDD (power) hidden to 0.8V, K6 CORE_VSS (power) hidden to GND, K7 CORE_VDD (power) hidden to 0.8V, K8 CORE_VSS (power) hidden to GND, K9 CORE_VDD (power) hidden to 0.8V, K10 CORE_VSS (power) hidden to GND, K11 CORE_VDD (power) hidden to 0.8V, K12 CORE_VSS (power) hidden to GND, K13 CORE_VDD (power) hidden to 0.8V, K14 CORE_VSS (power) hidden to GND, K15 CORE_VDD (power) hidden to 0.8V, K16 CORE_VSS (power) hidden to GND, K17 CORE_VDD (power) hidden to 0.8V, K18 CORE_VSS (power) hidden to GND, K19 CORE_VDD (power) hidden to 0.8V, K20 CORE_VSS (power) hidden to GND, K21 CORE_VDD (power) hidden to 0.8V, K22 CORE_VSS (power) hidden to GND, K23 CORE_VDD (power) hidden to 0.8V, K24 CORE_VSS (power) hidden to GND, K25 CORE_VDD (power) hidden to 0.8V, K26 CORE_VSS (power) hidden to GND, K27 CORE_VDD (power) hidden to 0.8V, K28 CORE_VSS (power) hidden to GND, K29 CORE_VDD (power) hidden to 0.8V, K30 CORE_VSS (power) hidden to GND, L1 CORE_VSS (power) hidden to GND, L2 CORE_VDD (power) hidden to 0.8V, L3 CORE_VSS (power) hidden to GND, L4 CORE_VDD (power) hidden to 0.8V, L5 CORE_VSS (power) hidden to GND, L6 CORE_VDD (power) hidden to 0.8V, L7 CORE_VSS (power) hidden to GND, L8 CORE_VDD (power) hidden to 0.8V, L9 CORE_VSS (power) hidden to GND, L10 CORE_VDD (power) hidden to 0.8V, L11 CORE_VSS (power) hidden to GND, L12 CORE_VDD (power) hidden to 0.8V, L13 CORE_VSS (power) hidden to GND, L14 CORE_VDD (power) hidden to 0.8V, L15 CORE_VSS (power) hidden to GND, L16 CORE_VDD (power) hidden to 0.8V, L17 CORE_VSS (power) hidden to GND, L18 CORE_VDD (power) hidden to 0.8V, L19 CORE_VSS (power) hidden to GND, L20 CORE_VDD (power) hidden to 0.8V, L21 CORE_VSS (power) hidden to GND, L22 CORE_VDD (power) hidden to 0.8V, L23 CORE_VSS (power) hidden to GND, L24 CORE_VDD (power) hidden to 0.8V, L25 CORE_VSS (power) hidden to GND, L26 CORE_VDD (power) hidden to 0.8V, L27 CORE_VSS (power) hidden to GND, L28 CORE_VDD (power) hidden to 0.8V, L29 CORE_VSS (power) hidden to GND, L30 CORE_VDD (power) hidden to 0.8V, M1 CORE_VDD (power) hidden to 0.8V, M2 CORE_VSS (power) hidden to GND, M3 CORE_VDD (power) hidden to 0.8V, M4 CORE_VSS (power) hidden to GND, M5 CORE_VDD (power) hidden to 0.8V, M6 CORE_VSS (power) hidden to GND, M7 CORE_VDD (power) hidden to 0.8V, M8 CORE_VSS (power) hidden to GND, M9 CORE_VDD (power) hidden to 0.8V, M10 CORE_VSS (power) hidden to GND, M11 CORE_VDD (power) hidden to 0.8V, M12 CORE_VSS (power) hidden to GND, M13 CORE_VDD (power) hidden to 0.8V, M14 CORE_VSS (power) hidden to GND, M15 CORE_VDD (power) hidden to 0.8V, M16 CORE_VSS (power) hidden to GND, M17 CORE_VDD (power) hidden to 0.8V, M18 CORE_VSS (power) hidden to GND, M19 CORE_VDD (power) hidden to 0.8V, M20 CORE_VSS (power) hidden to GND, M21 CORE_VDD (power) hidden to 0.8V, M22 CORE_VSS (power) hidden to GND, M23 CORE_VDD (power) hidden to 0.8V, M24 CORE_VSS (power) hidden to GND, M25 CORE_VDD (power) hidden to 0.8V, M26 CORE_VSS (power) hidden to GND, M27 CORE_VDD (power) hidden to 0.8V, M28 CORE_VSS (power) hidden to GND, M29 CORE_VDD (power) hidden to 0.8V, M30 CORE_VSS (power) hidden to GND, N1 CORE_VSS (power) hidden to GND, N2 CORE_VDD (power) hidden to 0.8V, N3 CORE_VSS (power) hidden to GND, N4 CORE_VDD (power) hidden to 0.8V, N5 CORE_VSS (power) hidden to GND, N6 CORE_VDD (power) hidden to 0.8V, N7 CORE_VSS (power) hidden to GND, N8 CORE_VDD (power) hidden to 0.8V, N9 CORE_VSS (power) hidden to GND, N10 CORE_VDD (power) hidden to 0.8V, N11 CORE_VSS (power) hidden to GND, N12 CORE_VDD (power) hidden to 0.8V, N13 CORE_VSS (power) hidden to GND, N14 CORE_VDD (power) hidden to 0.8V, N15 CORE_VSS (power) hidden to GND, N16 CORE_VDD (power) hidden to 0.8V, N17 CORE_VSS (power) hidden to GND, N18 CORE_VDD (power) hidden to 0.8V, N19 CORE_VSS (power) hidden to GND, N20 CORE_VDD (power) hidden to 0.8V, N21 CORE_VSS (power) hidden to GND, N22 CORE_VDD (power) hidden to 0.8V, N23 CORE_VSS (power) hidden to GND, N24 CORE_VDD (power) hidden to 0.8V, N25 CORE_VSS (power) hidden to GND, N26 CORE_VDD (power) hidden to 0.8V, N27 CORE_VSS (power) hidden to GND, N28 CORE_VDD (power) hidden to 0.8V, N29 CORE_VSS (power) hidden to GND, N30 CORE_VDD (power) hidden to 0.8V, P1 CORE_VDD (power) hidden to 0.8V, P2 CORE_VSS (power) hidden to GND, P3 CORE_VDD (power) hidden to 0.8V, P4 CORE_VSS (power) hidden to GND, P5 CORE_VDD (power) hidden to 0.8V, P6 CORE_VSS (power) hidden to GND, P7 CORE_VDD (power) hidden to 0.8V, P8 CORE_VSS (power) hidden to GND, P9 CORE_VDD (power) hidden to 0.8V, P10 CORE_VSS (power) hidden to GND, P11 CORE_VDD (power) hidden to 0.8V, P12 CORE_VSS (power) hidden to GND, P13 CORE_VDD (power) hidden to 0.8V, P14 CORE_VSS (power) hidden to GND, P15 CORE_VDD (power) hidden to 0.8V, P16 CORE_VSS (power) hidden to GND, P17 CORE_VDD (power) hidden to 0.8V, P18 CORE_VSS (power) hidden to GND, P19 CORE_VDD (power) hidden to 0.8V, P20 CORE_VSS (power) hidden to GND, P21 CORE_VDD (power) hidden to 0.8V, P22 CORE_VSS (power) hidden to GND, P23 CORE_VDD (power) hidden to 0.8V, P24 CORE_VSS (power) hidden to GND, P25 CORE_VDD (power) hidden to 0.8V, P26 CORE_VSS (power) hidden to GND, P27 CORE_VDD (power) hidden to 0.8V, P28 CORE_VSS (power) hidden to GND, P29 CORE_VDD (power) hidden to 0.8V, P30 CORE_VSS (power) hidden to GND, R1 CORE_VSS (power) hidden to GND, R2 CORE_VDD (power) hidden to 0.8V, R3 CORE_VSS (power) hidden to GND, R4 CORE_VDD (power) hidden to 0.8V, R5 CORE_VSS (power) hidden to GND, R6 CORE_VDD (power) hidden to 0.8V, R7 CORE_VSS (power) hidden to GND, R8 CORE_VDD (power) hidden to 0.8V, R9 CORE_VSS (power) hidden to GND, R10 CORE_VDD (power) hidden to 0.8V, R11 CORE_VSS (power) hidden to GND, R12 CORE_VDD (power) hidden to 0.8V, R13 CORE_VSS (power) hidden to GND, R14 CORE_VDD (power) hidden to 0.8V, R15 CORE_VSS (power) hidden to GND, R16 CORE_VDD (power) hidden to 0.8V, R17 CORE_VSS (power) hidden to GND, R18 CORE_VDD (power) hidden to 0.8V, R19 CORE_VSS (power) hidden to GND, R20 CORE_VDD (power) hidden to 0.8V, R21 CORE_VSS (power) hidden to GND, R22 CORE_VDD (power) hidden to 0.8V, R23 CORE_VSS (power) hidden to GND, R24 CORE_VDD (power) hidden to 0.8V, R25 CORE_VSS (power) hidden to GND, R26 CORE_VDD (power) hidden to 0.8V, R27 CORE_VSS (power) hidden to GND, R28 CORE_VDD (power) hidden to 0.8V, R29 CORE_VSS (power) hidden to GND, R30 CORE_VDD (power) hidden to 0.8V, T1 CORE_VDD (power) hidden to 0.8V, T2 CORE_VSS (power) hidden to GND, T3 CORE_VDD (power) hidden to 0.8V, T4 CORE_VSS (power) hidden to GND, T5 CORE_VDD (power) hidden to 0.8V, T6 CORE_VSS (power) hidden to GND, T7 CORE_VDD (power) hidden to 0.8V, T8 CORE_VSS (power) hidden to GND, T9 CORE_VDD (power) hidden to 0.8V, T10 CORE_VSS (power) hidden to GND, T11 CORE_VDD (power) hidden to 0.8V, T12 CORE_VSS (power) hidden to GND, T13 CORE_VDD (power) hidden to 0.8V, T14 CORE_VSS (power) hidden to GND, T15 CORE_VDD (power) hidden to 0.8V, T16 CORE_VSS (power) hidden to GND, T17 CORE_VDD (power) hidden to 0.8V, T18 CORE_VSS (power) hidden to GND, T19 CORE_VDD (power) hidden to 0.8V, T20 CORE_VSS (power) hidden to GND, T21 CORE_VDD (power) hidden to 0.8V, T22 CORE_VSS (power) hidden to GND, T23 CORE_VDD (power) hidden to 0.8V, T24 CORE_VSS (power) hidden to GND, T25 CORE_VDD (power) hidden to 0.8V, T26 CORE_VSS (power) hidden to GND, T27 CORE_VDD (power) hidden to 0.8V, T28 CORE_VSS (power) hidden to GND, T29 CORE_VDD (power) hidden to 0.8V, T30 CORE_VSS (power) hidden to GND, U1 CORE_VSS (power) hidden to GND, U2 CORE_VDD (power) hidden to 0.8V, U3 CORE_VSS (power) hidden to GND, U4 CORE_VDD (power) hidden to 0.8V, U5 CORE_VSS (power) hidden to GND, U6 CORE_VDD (power) hidden to 0.8V, U7 CORE_VSS (power) hidden to GND, U8 CORE_VDD (power) hidden to 0.8V, U9 CORE_VSS (power) hidden to GND, U10 CORE_VDD (power) hidden to 0.8V, U11 CORE_VSS (power) hidden to GND, U12 CORE_VDD (power) hidden to 0.8V, U13 CORE_VSS (power) hidden to GND, U14 CORE_VDD (power) hidden to 0.8V, U15 CORE_VSS (power) hidden to GND, U16 CORE_VDD (power) hidden to 0.8V, U17 CORE_VSS (power) hidden to GND, U18 CORE_VDD (power) hidden to 0.8V, U19 CORE_VSS (power) hidden to GND, U20 CORE_VDD (power) hidden to 0.8V, U21 CORE_VSS (power) hidden to GND, U22 CORE_VDD (power) hidden to 0.8V, U23 CORE_VSS (power) hidden to GND, U24 CORE_VDD (power) hidden to 0.8V, U25 CORE_VSS (power) hidden to GND, U26 CORE_VDD (power) hidden to 0.8V, U27 CORE_VSS (power) hidden to GND, U28 CORE_VDD (power) hidden to 0.8V, U29 CORE_VSS (power) hidden to GND, U30 CORE_VDD (power) hidden to 0.8V, V1 CORE_VDD (power) hidden to 0.8V, V2 CORE_VSS (power) hidden to GND, V3 CORE_VDD (power) hidden to 0.8V, V4 CORE_VSS (power) hidden to GND, V5 CORE_VDD (power) hidden to 0.8V, V6 CORE_VSS (power) hidden to GND, V7 CORE_VDD (power) hidden to 0.8V, V8 CORE_VSS (power) hidden to GND, V9 CORE_VDD (power) hidden to 0.8V, V10 CORE_VSS (power) hidden to GND, V11 CORE_VDD (power) hidden to 0.8V, V12 CORE_VSS (power) hidden to GND, V13 CORE_VDD (power) hidden to 0.8V, V14 CORE_VSS (power) hidden to GND, V15 CORE_VDD (power) hidden to 0.8V, V16 CORE_VSS (power) hidden to GND, V17 CORE_VDD (power) hidden to 0.8V, V18 CORE_VSS (power) hidden to GND, V19 CORE_VDD (power) hidden to 0.8V, V20 CORE_VSS (power) hidden to GND, V21 CORE_VDD (power) hidden to 0.8V, V22 CORE_VSS (power) hidden to GND, V23 CORE_VDD (power) hidden to 0.8V, V24 CORE_VSS (power) hidden to GND, V25 CORE_VDD (power) hidden to 0.8V, V26 CORE_VSS (power) hidden to GND, V27 CORE_VDD (power) hidden to 0.8V, V28 CORE_VSS (power) hidden to GND, V29 CORE_VDD (power) hidden to 0.8V, V30 CORE_VSS (power) hidden to GND, W1 CORE_VSS (power) hidden to GND, W2 CORE_VDD (power) hidden to 0.8V, W3 CORE_VSS (power) hidden to GND, W4 CORE_VDD (power) hidden to 0.8V, W5 CORE_VSS (power) hidden to GND, W6 CORE_VDD (power) hidden to 0.8V, W7 CORE_VSS (power) hidden to GND, W8 CORE_VDD (power) hidden to 0.8V, W9 CORE_VSS (power) hidden to GND, W10 CORE_VDD (power) hidden to 0.8V, W11 CORE_VSS (power) hidden to GND, W12 CORE_VDD (power) hidden to 0.8V, W13 CORE_VSS (power) hidden to GND, W14 CORE_VDD (power) hidden to 0.8V, W15 CORE_VSS (power) hidden to GND, W16 CORE_VDD (power) hidden to 0.8V, W17 CORE_VSS (power) hidden to GND, W18 CORE_VDD (power) hidden to 0.8V, W19 CORE_VSS (power) hidden to GND, W20 CORE_VDD (power) hidden to 0.8V, W21 CORE_VSS (power) hidden to GND, W22 CORE_VDD (power) hidden to 0.8V, W23 CORE_VSS (power) hidden to GND, W24 CORE_VDD (power) hidden to 0.8V, W25 CORE_VSS (power) hidden to GND, W26 CORE_VDD (power) hidden to 0.8V, W27 CORE_VSS (power) hidden to GND, W28 CORE_VDD (power) hidden to 0.8V, W29 CORE_VSS (power) hidden to GND, W30 CORE_VDD (power) hidden to 0.8V, Y1 CORE_VDD (power) hidden to 0.8V, Y2 CORE_VSS (power) hidden to GND, Y3 CORE_VDD (power) hidden to 0.8V, Y4 CORE_VSS (power) hidden to GND, Y5 CORE_VDD (power) hidden to 0.8V, Y6 CORE_VSS (power) hidden to GND, Y7 CORE_VDD (power) hidden to 0.8V, Y8 CORE_VSS (power) hidden to GND, Y9 CORE_VDD (power) hidden to 0.8V, Y10 CORE_VSS (power) hidden to GND, Y11 CORE_VDD (power) hidden to 0.8V, Y12 CORE_VSS (power) hidden to GND, Y13 CORE_VDD (power) hidden to 0.8V, Y14 CORE_VSS (power) hidden to GND, Y15 CORE_VDD (power) hidden to 0.8V, Y16 CORE_VSS (power) hidden to GND, Y17 CORE_VDD (power) hidden to 0.8V, Y18 CORE_VSS (power) hidden to GND, Y19 CORE_VDD (power) hidden to 0.8V, Y20 CORE_VSS (power) hidden to GND, Y21 CORE_VDD (power) hidden to 0.8V, Y22 CORE_VSS (power) hidden to GND, Y23 CORE_VDD (power) hidden to 0.8V, Y24 CORE_VSS (power) hidden to GND, Y25 CORE_VDD (power) hidden to 0.8V, Y26 CORE_VSS (power) hidden to GND, Y27 CORE_VDD (power) hidden to 0.8V, Y28 CORE_VSS (power) hidden to GND, Y29 CORE_VDD (power) hidden to 0.8V, Y30 CORE_VSS (power) hidden to GND